# Altium schematic symbol library GreenLED.SchLib: 2 symbols
Pins are listed as number, name and electrical type; pins without a type are passive.

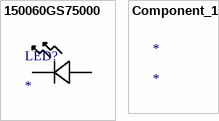
[diagram p0: symbols 150060GS75000 to Component_1]

## 150060GS75000
designator LED?
No Description Available; Mfr_Name: Wurth Electronics
footprint LED_150060GS75000_WRE
pins: 1, 2

## Component_1
designator *